# Altium footprint library Power Connector.PcbLib: 25 footprints (part 2 of 2)
Each footprint in its own frame and in the unit in brackets; x right, y up, seen from the top. Pads: shape width x height; smd on the part's side, far side on the other; paste and mask are expansions set on the pad; w line width, h text height; cw(c..) or ccw(c..) is an arc to the next point about the centre after c.
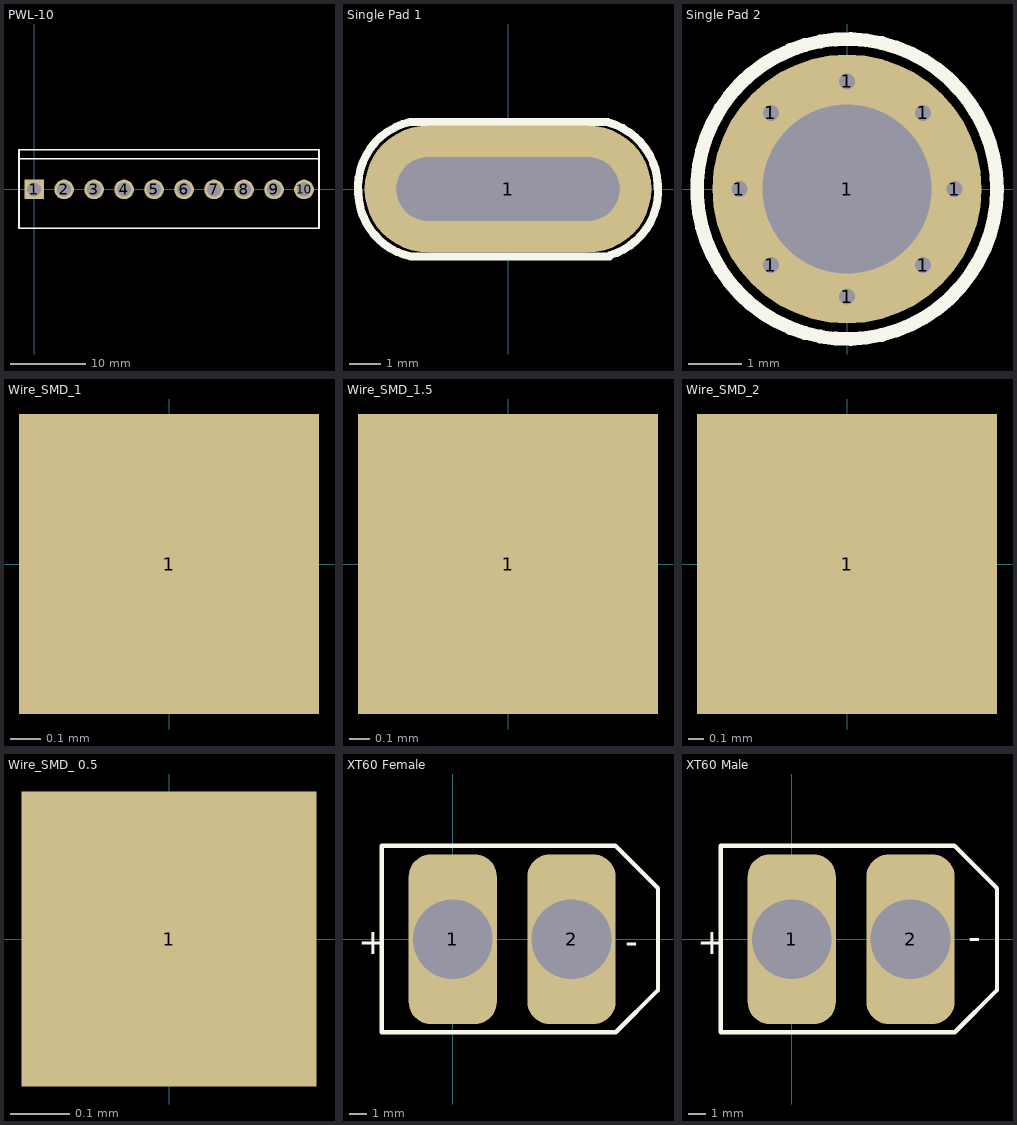
[diagram p1: the footprints below, top view; thin cyan lines are the x and y axes]

## PWL-10 [mm] "Connector; Header; 10 Position"
height 0.001
pads (10):
  rect 2.6x2.6 hole 1.85: 1(0,0)
  round 2.6 hole 1.85: 2(3.96,0) 3(7.92,0) 4(11.88,0) 5(15.84,0) 6(19.8,0) 7(23.76,0) 8(27.72,0) 9(31.68,0) 10(35.64,0)
Top Overlay:
  lines w0.2: -2,4.064 37.62,4.064 ; -2,-5.1 37.62,-5.1 37.62,5.207 -2,5.207 -2,-5.1
3D body "PWL-10.stp": height 13.5, standoff -4, extent -1.98,-5 37.62,5

## Single Pad 1 [mm]
pads (1):
  oval 9x4 hole 7 slot 2 at 90 deg: 1(0,0)
Top Overlay:
  lines w0.25: -3.075,2.106 3.135,2.106 ; -3.04,-2.122 3.19,-2.122
  lines w0.254: -3.075,2.106 ccw(c-2.604,0.056) -4.699,-0.135 ccw(c-2.604,-0.071) -3.04,-2.122 ; 3.155,2.086 cw(c2.603,0.064) 4.699,0.127 cw(c2.603,-0.064) 3.19,-2.084

## Single Pad 2 [mm]
pads (9):
  round 0.6 hole 0.3: 1(-2,0) 1(-1.414,-1.414) 1(-1.414,1.414) 1(0,-2) 1(0,2) 1(1.414,-1.414) 1(1.414,1.414) 1(2,0)
  round 5 hole 3.15 mask+0.1: 1(0,0)
Top Overlay:
  circle w0.254: c0,0 r2.79

## Wire_SMD_1 [mm] "1*1"
pads (1):
  rect 1x1 smd: 1(0,0)

## Wire_SMD_1.5 [mm] "1.5 * 1.5"
pads (1):
  rect 1.5x1.5 smd: 1(0,0)

## Wire_SMD_2 [mm] "2 * 2"
pads (1):
  rect 2x2 smd: 1(0,0)

## Wire_SMD_ 0.5 [mm] "0.5 * 0.5"
pads (1):
  rect 0.5x0.5 smd: 1(0,0)

## XT60 Female [mm] "XT60"
pads (2):
  rrect50% 5.2x10 hole 4.7: 1(0,0) 2(7,0)
Top Layer:
  text "+" at -5.588,-0.889 h1.52
Bottom Layer:
  text "+" at -5.588,-0.889 h1.52
Top Overlay:
  lines w0.254: -4.191,-5.486 -4.191,5.512 9.588,5.512 12.1,3 12.1,-3 9.614,-5.486 -4.191,-5.486
  text "+" at -5.588,-0.889 h1.52
  text "-" at 10.16,-0.889 h1.52
3D body "User Library-XT60 female.STEP": height 17.5, standoff -4.7, extent -4.25,-4.15 11.65,4

## XT60 Male [mm] "XT60"
pads (2):
  rrect50% 5.2x10 hole 4.7: 1(0,0) 2(7,0)
Top Layer:
  text "+" at -5.588,-0.889 h1.52
Bottom Layer:
  text "+" at -5.588,-0.889 h1.52
Top Overlay:
  lines w0.254: -4.191,-5.486 -4.191,5.512 9.588,5.512 12.1,3 12.1,-3 9.614,-5.486 -4.191,-5.486
  text "-" at 10.414,-0.635 h1.52
  text "+" at -5.588,-0.889 h1.52
3D body "User Library-XT60 male.STEP": height 16.5, standoff -4.7, extent -4.35,-4.15 11.55,4